# Altium schematic symbol library Memory_EEPROM.SchLib: 82 symbols
Pins are listed as number, name and electrical type; pins without a type are passive.

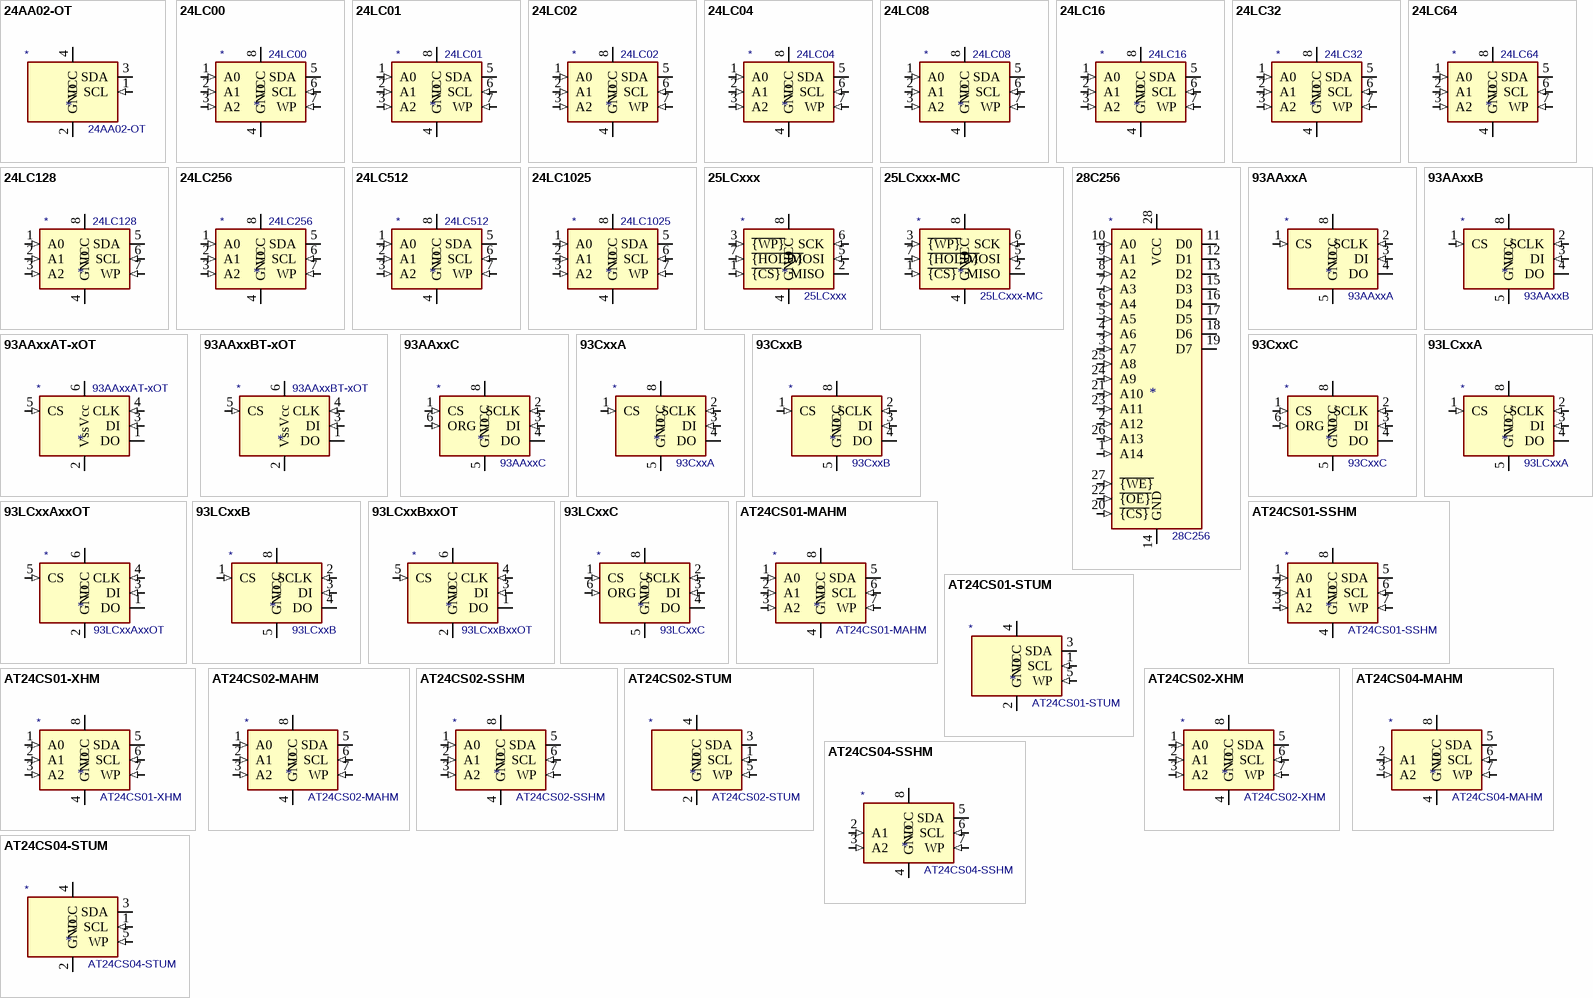
[diagram p0: symbols 24AA02-OT to AT24CS04-STUM]

## 24AA02-OT
designator *  value 24AA02-OT
ki_keywords: I2C Serial EEPROM; ki_description: I2C Serial EEPROM, 2Kb, SOT-23; ki_fp_filters: SOT?23*; Footprint: Package_TO_SOT_SMD:SOT-23-5; Supplier: http://ww1.microchip.com/downloads/en/DeviceDoc/21709J.pdf
footprint SOT-23-5
pins: 1 SCL (in), 2 GND (power), 3 SDA (io), 4 VCC (power), 5 NC (in) hidden

## 24LC00
designator *  value 24LC00
ki_keywords: I2C Serial EEPROM; ki_description: I2C Serial EEPROM, 128 Bits, DIP-8/SOIC-8/TSSOP-8/DFN-8; ki_fp_filters: DIP*W7.62mm* SOIC*3.9x4.9mm* TSSOP*4.4x3mm*P0.65mm* DFN*3x2mm*P0.5mm*; Supplier: http://ww1.microchip.com/downloads/en/DeviceDoc/21178G.pdf
pins: 1 A0 (in), 2 A1 (in), 3 A2 (in), 4 GND (power), 5 SDA (io), 6 SCL (in), 7 WP (in), 8 VCC (power)

## 24LC01
designator *  value 24LC01
ki_keywords: I2C Serial EEPROM; ki_description: I2C Serial EEPROM, 1Kb, DIP-8/SOIC-8/TSSOP-8/DFN-8; ki_fp_filters: DIP*W7.62mm* SOIC*3.9x4.9mm* TSSOP*4.4x3mm*P0.65mm* DFN*3x2mm*P0.5mm*; Supplier: http://ww1.microchip.com/downloads/en/DeviceDoc/21711J.pdf
pins: 1 A0 (in), 2 A1 (in), 3 A2 (in), 4 GND (power), 5 SDA (io), 6 SCL (in), 7 WP (in), 8 VCC (power)

## 24LC02
designator *  value 24LC02
ki_keywords: I2C Serial EEPROM; ki_description: I2C Serial EEPROM, 2Kb, DIP-8/SOIC-8/TSSOP-8/DFN-8; ki_fp_filters: DIP*W7.62mm* SOIC*3.9x4.9mm* TSSOP*4.4x3mm*P0.65mm* DFN*3x2mm*P0.5mm*; Supplier: http://ww1.microchip.com/downloads/en/DeviceDoc/21709c.pdf
pins: 1 A0 (in), 2 A1 (in), 3 A2 (in), 4 GND (power), 5 SDA (io), 6 SCL (in), 7 WP (in), 8 VCC (power)

## 24LC04
designator *  value 24LC04
ki_keywords: I2C Serial EEPROM; ki_description: I2C Serial EEPROM, 4Kb, DIP-8/SOIC-8/TSSOP-8/DFN-8; ki_fp_filters: DIP*W7.62mm* SOIC*3.9x4.9mm* TSSOP*4.4x3mm*P0.65mm* DFN*3x2mm*P0.5mm*; Supplier: http://ww1.microchip.com/downloads/en/DeviceDoc/21708K.pdf
pins: 1 A0 (in), 2 A1 (in), 3 A2 (in), 4 GND (power), 5 SDA (io), 6 SCL (in), 7 WP (in), 8 VCC (power)

## 24LC08
designator *  value 24LC08
ki_keywords: I2C Serial EEPROM; ki_description: I2C Serial EEPROM, 8Kb, DIP-8/SOIC-8/TSSOP-8/DFN-8; ki_fp_filters: DIP*W7.62mm* SOIC*3.9x4.9mm* TSSOP*4.4x3mm*P0.65mm* DFN*3x2mm*P0.5mm*; Supplier: http://ww1.microchip.com/downloads/en/DeviceDoc/21710J.pdf
pins: 1 A0 (in), 2 A1 (in), 3 A2 (in), 4 GND (power), 5 SDA (io), 6 SCL (in), 7 WP (in), 8 VCC (power)

## 24LC16
designator *  value 24LC16
ki_keywords: I2C Serial EEPROM; ki_description: I2C Serial EEPROM, 16Kb, DIP-8/SOIC-8/TSSOP-8/DFN-8; ki_fp_filters: DIP*W7.62mm* SOIC*3.9x4.9mm* TSSOP*4.4x3mm*P0.65mm* DFN*3x2mm*P0.5mm*; Supplier: http://ww1.microchip.com/downloads/en/DeviceDoc/21703d.pdf
pins: 1 A0 (in), 2 A1 (in), 3 A2 (in), 4 GND (power), 5 SDA (io), 6 SCL (in), 7 WP (in), 8 VCC (power)

## 24LC32
designator *  value 24LC32
ki_keywords: I2C Serial EEPROM; ki_description: I2C Serial EEPROM, 32Kb, DIP-8/SOIC-8/TSSOP-8/DFN-8; ki_fp_filters: DIP*W7.62mm* SOIC*3.9x4.9mm* TSSOP*4.4x3mm*P0.65mm* DFN*3x2mm*P0.5mm*; Supplier: http://ww1.microchip.com/downloads/en/DeviceDoc/21072G.pdf
pins: 1 A0 (in), 2 A1 (in), 3 A2 (in), 4 GND (power), 5 SDA (io), 6 SCL (in), 7 WP (in), 8 VCC (power)

## 24LC64
designator *  value 24LC64
ki_keywords: I2C Serial EEPROM; ki_description: I2C Serial EEPROM, 64Kb, DIP-8/SOIC-8/TSSOP-8/DFN-8; ki_fp_filters: DIP*W7.62mm* SOIC*3.9x4.9mm* TSSOP*4.4x3mm*P0.65mm* DFN*3x2mm*P0.5mm*; Supplier: http://ww1.microchip.com/downloads/en/DeviceDoc/21189f.pdf
pins: 1 A0 (in), 2 A1 (in), 3 A2 (in), 4 GND (power), 5 SDA (io), 6 SCL (in), 7 WP (in), 8 VCC (power)

## 24LC128
designator *  value 24LC128
ki_keywords: I2C Serial EEPROM; ki_description: I2C Serial EEPROM, 128Kb, DIP-8/SOIC-8/TSSOP-8/DFN-8; ki_fp_filters: DIP*W7.62mm* SOIC*3.9x4.9mm* TSSOP*4.4x3mm*P0.65mm* DFN*3x2mm*P0.5mm*; Supplier: http://ww1.microchip.com/downloads/en/DeviceDoc/21191s.pdf
pins: 1 A0 (in), 2 A1 (in), 3 A2 (in), 4 GND (power), 5 SDA (io), 6 SCL (in), 7 WP (in), 8 VCC (power)

## 24LC256
designator *  value 24LC256
ki_keywords: I2C Serial EEPROM; ki_description: I2C Serial EEPROM, 256Kb, DIP-8/SOIC-8/TSSOP-8/DFN-8; ki_fp_filters: DIP*W7.62mm* SOIC*3.9x4.9mm* TSSOP*4.4x3mm*P0.65mm* DFN*3x2mm*P0.5mm*; Supplier: http://ww1.microchip.com/downloads/en/devicedoc/21203m.pdf
pins: 1 A0 (in), 2 A1 (in), 3 A2 (in), 4 GND (power), 5 SDA (io), 6 SCL (in), 7 WP (in), 8 VCC (power)

## 24LC512
designator *  value 24LC512
ki_keywords: I2C Serial EEPROM; ki_description: I2C Serial EEPROM, 512Kb, DIP-8/SOIC-8/TSSOP-8/DFN-8; ki_fp_filters: DIP*W7.62mm* SOIC*3.9x4.9mm* TSSOP*4.4x3mm*P0.65mm* DFN*3x2mm*P0.5mm*; Supplier: http://ww1.microchip.com/downloads/en/DeviceDoc/21754M.pdf
pins: 1 A0 (in), 2 A1 (in), 3 A2 (in), 4 GND (power), 5 SDA (io), 6 SCL (in), 7 WP (in), 8 VCC (power)

## 24LC1025
designator *  value 24LC1025
ki_keywords: I2C Serial EEPROM; ki_description: I2C Serial EEPROM, 1024Kb, DIP-8/SOIC-8/TSSOP-8/DFN-8; ki_fp_filters: DIP*W7.62mm* SOIC*3.9x4.9mm* TSSOP*4.4x3mm*P0.65mm* DFN*3x2mm*P0.5mm*; Supplier: http://ww1.microchip.com/downloads/en/DeviceDoc/21941B.pdf
pins: 1 A0 (in), 2 A1 (in), 3 A2 (in), 4 GND (power), 5 SDA (io), 6 SCL (in), 7 WP (in), 8 VCC (power)

## 25LCxxx
designator *  value 25LCxxx
ki_keywords: EEPROM memory SPI serial; ki_description: SPI Serial EEPROM, DIP-8/SOIC-8/TSSOP-8; ki_fp_filters: DIP*W7.62mm* SOIC*3.9x4.9mm* TSSOP*4.4x3mm*P0.65mm*; Supplier: http://ww1.microchip.com/downloads/en/DeviceDoc/21832H.pdf
pins: 1 ~{{CS}} (in), 2 MISO (hiz), 3 ~{{WP}} (in), 4 GND (power), 5 MOSI (in), 6 SCK (in), 7 ~{{HOLD}} (in), 8 VCC (power)

## 25LCxxx-MC
designator *  value 25LCxxx-MC
ki_keywords: EEPROM memory SPI serial; ki_description: SPI Serial EEPROM, DFN8; ki_fp_filters: DFN*3x2mm*P0.5mm*; Footprint: Package_DFN_QFN:DFN-8-1EP_3x2mm_P0.5mm_EP1.75x1.45mm; Supplier: http://ww1.microchip.com/downloads/en/DeviceDoc/21832H.pdf
footprint DFN-8-1EP_3x2mm_P0.5mm_EP1.75x1.45mm
pins: 1 ~{{CS}} (in), 2 MISO (hiz), 3 ~{{WP}} (in), 4 GND (power), 5 MOSI (in), 6 SCK (in), 7 ~{{HOLD}} (in), 8 VCC (power), 9 GND hidden

## 28C256
designator *  value 28C256
ki_keywords: Parallel EEPROM 256Kb; ki_description: Paged Parallel EEPROM 256Kb (32K x 8), DIP-28/SOIC-28; ki_fp_filters: DIP*W15.24mm* SOIC*7.5x17.9mm*P1.27mm*; Supplier: http://ww1.microchip.com/downloads/en/DeviceDoc/doc0006.pdf
pins: 1 A14 (in), 2 A12 (in), 3 A7 (in), 4 A6 (in), 5 A5 (in), 6 A4 (in), 7 A3 (in), 8 A2 (in), 9 A1 (in), 10 A0 (in), 11 D0 (hiz), 12 D1 (hiz), 13 D2 (hiz), 14 GND (power), 15 D3 (hiz), 16 D4 (hiz), 17 D5 (hiz), 18 D6 (hiz), 19 D7 (hiz), 20 ~{{CS}} (in), 21 A10 (in), 22 ~{{OE}} (in), 23 A11 (in), 24 A9 (in), 25 A8 (in), 26 A13 (in), 27 ~{{WE}} (in), 28 VCC (power)

## 93AAxxA
designator *  value 93AAxxA
ki_keywords: EEPROM memory Microwire; ki_description: Serial EEPROM, 93 Series, 1.8V, DIP-8/SOIC-8; ki_fp_filters: DIP*W7.62mm* SOIC*3.9x4.9mm*; Supplier: http://ww1.microchip.com/downloads/en/DeviceDoc/20001749K.pdf
pins: 1 CS (in), 2 SCLK (in), 3 DI (in), 4 DO (hiz), 5 GND (power), 6 NC (in) hidden, 7 NC (in) hidden, 8 VCC (power)

## 93AAxxAT-xOT
designator *  value 93AAxxAT-xOT
ki_keywords: EEPROM memory Microwire; ki_description: Serial EEPROM, 93 Series, 8-bit word, 1.8V, SOT-23-6; ki_fp_filters: SOT?23*; Footprint: Package_TO_SOT_SMD:SOT-23-6; Supplier: http://ww1.microchip.com/downloads/en/DeviceDoc/20001749K.pdf
footprint SOT-23-6
pins: 1 DO (hiz), 2 Vss (power), 3 DI (in), 4 CLK (in), 5 CS (in), 6 Vcc (power)

## 93AAxxB
designator *  value 93AAxxB
ki_keywords: EEPROM memory Microwire; ki_description: Serial EEPROM, 93 Series, 1.8V, DIP-8/SOIC-8; ki_fp_filters: DIP*W7.62mm* SOIC*3.9x4.9mm*; Supplier: http://ww1.microchip.com/downloads/en/DeviceDoc/20001749K.pdf
pins: 1 CS (in), 2 SCLK (in), 3 DI (in), 4 DO (hiz), 5 GND (power), 6 NC (in) hidden, 7 NC (in) hidden, 8 VCC (power)

## 93AAxxBT-xOT
designator *  value 93AAxxBT-xOT
ki_keywords: EEPROM memory Microwire; ki_description: Serial EEPROM, 93 Series, 16-bit word, 1.8V, SOT-23; ki_fp_filters: SOT?23*; Footprint: Package_TO_SOT_SMD:SOT-23-6; Supplier: http://ww1.microchip.com/downloads/en/DeviceDoc/20001749K.pdf
footprint SOT-23-6
pins: 1 DO (hiz), 2 Vss (power), 3 DI (in), 4 CLK (in), 5 CS (in), 6 Vcc (power)

## 93AAxxC
designator *  value 93AAxxC
ki_keywords: EEPROM memory Microwire; ki_description: Serial EEPROM, 93 Series, with ORG Pin, 1.8V, DIP-8/SOIC-8; ki_fp_filters: DIP*W7.62mm* SOIC*3.9x4.9mm*; Supplier: http://ww1.microchip.com/downloads/en/DeviceDoc/20001749K.pdf
pins: 1 CS (in), 2 SCLK (in), 3 DI (in), 4 DO (hiz), 5 GND (power), 6 ORG (in), 7 NC (in) hidden, 8 VCC (power)

## 93CxxA
designator *  value 93CxxA
ki_keywords: EEPROM memory Microwire; ki_description: Serial EEPROM, 93 Series, 5.0V, DIP-8/SOIC-8; ki_fp_filters: DIP*W7.62mm* SOIC*3.9x4.9mm*; Supplier: http://ww1.microchip.com/downloads/en/DeviceDoc/20001749K.pdf
pins: 1 CS (in), 2 SCLK (in), 3 DI (in), 4 DO (hiz), 5 GND (power), 6 NC (in) hidden, 7 NC (in) hidden, 8 VCC (power)

## 93CxxB
designator *  value 93CxxB
ki_keywords: EEPROM memory Microwire; ki_description: Serial EEPROM, 93 Series, 5.0V, DIP-8/SOIC-8; ki_fp_filters: DIP*W7.62mm* SOIC*3.9x4.9mm*; Supplier: http://ww1.microchip.com/downloads/en/DeviceDoc/20001749K.pdf
pins: 1 CS (in), 2 SCLK (in), 3 DI (in), 4 DO (hiz), 5 GND (power), 6 NC (in) hidden, 7 NC (in) hidden, 8 VCC (power)

## 93CxxC
designator *  value 93CxxC
ki_keywords: EEPROM memory Microwire; ki_description: Serial EEPROM, 93 Series, with ORG Pin, 5.0V, DIP-8/SOIC-8; ki_fp_filters: DIP*W7.62mm* SOIC*3.9x4.9mm*; Supplier: http://ww1.microchip.com/downloads/en/DeviceDoc/20001749K.pdf
pins: 1 CS (in), 2 SCLK (in), 3 DI (in), 4 DO (hiz), 5 GND (power), 6 ORG (in), 7 NC (in) hidden, 8 VCC (power)

## 93LCxxA
designator *  value 93LCxxA
ki_keywords: EEPROM memory Microwire; ki_description: Serial EEPROM, 93 Series, 2.5V, DIP-8/SOIC-8; ki_fp_filters: DIP*W7.62mm* SOIC*3.9x4.9mm*; Supplier: http://ww1.microchip.com/downloads/en/DeviceDoc/20001749K.pdf
pins: 1 CS (in), 2 SCLK (in), 3 DI (in), 4 DO (hiz), 5 GND (power), 6 NC (in) hidden, 7 NC (in) hidden, 8 VCC (power)

## 93LCxxAxxOT
designator *  value 93LCxxAxxOT
ki_keywords: EEPROM memory Microwire; ki_description: Serial EEPROM, 93 Series, 2.5V, SOT-23-6; ki_fp_filters: SOT?23*; Footprint: Package_TO_SOT_SMD:SOT-23-6; Supplier: http://ww1.microchip.com/downloads/en/DeviceDoc/20001749K.pdf
footprint SOT-23-6
pins: 1 DO (hiz), 2 GND (power), 3 DI (in), 4 CLK (in), 5 CS (in), 6 VCC (power)

## 93LCxxB
designator *  value 93LCxxB
ki_keywords: EEPROM memory Microwire; ki_description: Serial EEPROM, 93 Series, 2.5V, DIP-8/SOIC-8; ki_fp_filters: DIP*W7.62mm* SOIC*3.9x4.9mm*; Supplier: http://ww1.microchip.com/downloads/en/DeviceDoc/20001749K.pdf
pins: 1 CS (in), 2 SCLK (in), 3 DI (in), 4 DO (hiz), 5 GND (power), 6 NC (in) hidden, 7 NC (in) hidden, 8 VCC (power)

## 93LCxxBxxOT
designator *  value 93LCxxBxxOT
ki_keywords: 1K Microwire Serial EEPROM; ki_description: Serial EEPROM, 93 Series, 2.5V, SOT-23-6; ki_fp_filters: SOT?23*; Footprint: Package_TO_SOT_SMD:SOT-23-6; Supplier: http://ww1.microchip.com/downloads/en/DeviceDoc/20001749K.pdf
footprint SOT-23-6
pins: 1 DO (hiz), 2 GND (power), 3 DI (in), 4 CLK (in), 5 CS (in), 6 VCC (power)

## 93LCxxC
designator *  value 93LCxxC
ki_keywords: EEPROM memory Microwire; ki_description: Serial EEPROM, 93 Series, with ORG Pin, 2.5V, DIP-8/SOIC-8; ki_fp_filters: DIP*W7.62mm* SOIC*3.9x4.9mm*; Supplier: http://ww1.microchip.com/downloads/en/DeviceDoc/20001749K.pdf
pins: 1 CS (in), 2 SCLK (in), 3 DI (in), 4 DO (hiz), 5 GND (power), 6 ORG (in), 7 NC (in) hidden, 8 VCC (power)

## AT24CS01-MAHM
designator *  value AT24CS01-MAHM
ki_keywords: I2C Serial EEPROM Nonvolatile Memory; ki_description: I2C Serial EEPROM, 1Kb (128x8) with Unique Serial Number, UDFN8; ki_fp_filters: DFN*3x2mm*P0.5mm*; Footprint: Package_DFN_QFN:DFN-8-1EP_3x2mm_P0.5mm_EP1.3x1.5mm; Supplier: http://ww1.microchip.com/downloads/en/DeviceDoc/Atmel-8815-SEEPROM-AT24CS01-02-Datasheet.pdf
footprint DFN-8-1EP_3x2mm_P0.5mm_EP1.3x1.5mm
pins: 1 A0 (in), 2 A1 (in), 3 A2 (in), 4 GND (power), 5 SDA (io), 6 SCL (in), 7 WP (in), 8 VCC (power)

## AT24CS01-SSHM
designator *  value AT24CS01-SSHM
ki_keywords: I2C Serial EEPROM Nonvolatile Memory; ki_description: I2C Serial EEPROM, 1Kb (128x8) with Unique Serial Number, SO8; ki_fp_filters: SOIC*3.9x4.9mm*P1.27mm*; Footprint: Package_SO:SOIC-8_3.9x4.9mm_P1.27mm; Supplier: http://ww1.microchip.com/downloads/en/DeviceDoc/Atmel-8815-SEEPROM-AT24CS01-02-Datasheet.pdf
footprint SOIC-8_3.9x4.9mm_P1.27mm
pins: 1 A0 (in), 2 A1 (in), 3 A2 (in), 4 GND (power), 5 SDA (io), 6 SCL (in), 7 WP (in), 8 VCC (power)

## AT24CS01-STUM
designator *  value AT24CS01-STUM
ki_keywords: I2C Serial EEPROM Nonvolatile Memory; ki_description: I2C Serial EEPROM, 1Kb (128x8) with Unique Serial Number, SOT-23-5; ki_fp_filters: SOT?23*; Footprint: Package_TO_SOT_SMD:SOT-23-5; Supplier: http://ww1.microchip.com/downloads/en/DeviceDoc/Atmel-8815-SEEPROM-AT24CS01-02-Datasheet.pdf
footprint SOT-23-5
pins: 1 SCL (in), 2 GND (power), 3 SDA (io), 4 VCC (power), 5 WP (in)

## AT24CS01-XHM
designator *  value AT24CS01-XHM
ki_keywords: I2C Serial EEPROM Nonvolatile Memory; ki_description: I2C Serial EEPROM, 1Kb (128x8) with Unique Serial Number, TSSOP8; ki_fp_filters: TSSOP*4.4x3mm*P0.65mm*; Footprint: Package_SO:TSSOP-8_4.4x3mm_P0.65mm; Supplier: http://ww1.microchip.com/downloads/en/DeviceDoc/Atmel-8815-SEEPROM-AT24CS01-02-Datasheet.pdf
footprint TSSOP-8_4.4x3mm_P0.65mm
pins: 1 A0 (in), 2 A1 (in), 3 A2 (in), 4 GND (power), 5 SDA (io), 6 SCL (in), 7 WP (in), 8 VCC (power)

## AT24CS02-MAHM
designator *  value AT24CS02-MAHM
ki_keywords: I2C Serial EEPROM Nonvolatile Memory; ki_description: I2C Serial EEPROM, 2Kb (256x8) with Unique Serial Number, UDFN8; ki_fp_filters: DFN*3x2mm*P0.5mm*; Footprint: Package_DFN_QFN:DFN-8-1EP_3x2mm_P0.5mm_EP1.3x1.5mm; Supplier: http://ww1.microchip.com/downloads/en/DeviceDoc/Atmel-8815-SEEPROM-AT24CS01-02-Datasheet.pdf
footprint DFN-8-1EP_3x2mm_P0.5mm_EP1.3x1.5mm
pins: 1 A0 (in), 2 A1 (in), 3 A2 (in), 4 GND (power), 5 SDA (io), 6 SCL (in), 7 WP (in), 8 VCC (power)

## AT24CS02-SSHM
designator *  value AT24CS02-SSHM
ki_keywords: I2C Serial EEPROM Nonvolatile Memory; ki_description: I2C Serial EEPROM, 2Kb (256x8) with Unique Serial Number, SO8; ki_fp_filters: SOIC*3.9x4.9mm*P1.27mm*; Footprint: Package_SO:SOIC-8_3.9x4.9mm_P1.27mm; Supplier: http://ww1.microchip.com/downloads/en/DeviceDoc/Atmel-8815-SEEPROM-AT24CS01-02-Datasheet.pdf
footprint SOIC-8_3.9x4.9mm_P1.27mm
pins: 1 A0 (in), 2 A1 (in), 3 A2 (in), 4 GND (power), 5 SDA (io), 6 SCL (in), 7 WP (in), 8 VCC (power)

## AT24CS02-STUM
designator *  value AT24CS02-STUM
ki_keywords: I2C Serial EEPROM Nonvolatile Memory; ki_description: I2C Serial EEPROM, 2Kb (256x8) with Unique Serial Number, SOT-23-5; ki_fp_filters: SOT?23*; Footprint: Package_TO_SOT_SMD:SOT-23-5; Supplier: http://ww1.microchip.com/downloads/en/DeviceDoc/Atmel-8815-SEEPROM-AT24CS01-02-Datasheet.pdf
footprint SOT-23-5
pins: 1 SCL (in), 2 GND (power), 3 SDA (io), 4 VCC (power), 5 WP (in)

## AT24CS02-XHM
designator *  value AT24CS02-XHM
ki_keywords: I2C Serial EEPROM Nonvolatile Memory; ki_description: I2C Serial EEPROM, 2Kb (256x8) with Unique Serial Number, TSSOP8; ki_fp_filters: TSSOP*4.4x3mm*P0.65mm*; Footprint: Package_SO:TSSOP-8_4.4x3mm_P0.65mm; Supplier: http://ww1.microchip.com/downloads/en/DeviceDoc/Atmel-8815-SEEPROM-AT24CS01-02-Datasheet.pdf
footprint TSSOP-8_4.4x3mm_P0.65mm
pins: 1 A0 (in), 2 A1 (in), 3 A2 (in), 4 GND (power), 5 SDA (io), 6 SCL (in), 7 WP (in), 8 VCC (power)

## AT24CS04-MAHM
designator *  value AT24CS04-MAHM
ki_keywords: I2C Serial EEPROM Nonvolatile Memory; ki_description: I2C Serial EEPROM, 4Kb (512x8) with Unique Serial Number, UDFN8; ki_fp_filters: DFN*3x2mm*P0.5mm*; Footprint: Package_DFN_QFN:DFN-8-1EP_3x2mm_P0.5mm_EP1.3x1.5mm; Supplier: http://ww1.microchip.com/downloads/en/DeviceDoc/Atmel-8766-SEEPROM-AT24CS04-08-Datasheet.pdf
footprint DFN-8-1EP_3x2mm_P0.5mm_EP1.3x1.5mm
pins: 1 NC (in) hidden, 2 A1 (in), 3 A2 (in), 4 GND (power), 5 SDA (io), 6 SCL (in), 7 WP (in), 8 VCC (power), 9 NC (in) hidden

## AT24CS04-SSHM
designator *  value AT24CS04-SSHM
ki_keywords: I2C Serial EEPROM Nonvolatile Memory; ki_description: I2C Serial EEPROM, 4Kb (512x8) with Unique Serial Number, SO8; ki_fp_filters: SOIC*3.9x4.9mm*P1.27mm*; Footprint: Package_SO:SOIC-8_3.9x4.9mm_P1.27mm; Supplier: http://ww1.microchip.com/downloads/en/DeviceDoc/Atmel-8766-SEEPROM-AT24CS04-08-Datasheet.pdf
footprint SOIC-8_3.9x4.9mm_P1.27mm
pins: 1 NC (in) hidden, 2 A1 (in), 3 A2 (in), 4 GND (power), 5 SDA (io), 6 SCL (in), 7 WP (in), 8 VCC (power)

## AT24CS04-STUM
designator *  value AT24CS04-STUM
ki_keywords: I2C Serial EEPROM Nonvolatile Memory; ki_description: I2C Serial EEPROM, 4Kb (512x8) with Unique Serial Number, SOT-23-5; ki_fp_filters: SOT?23*; Footprint: Package_TO_SOT_SMD:SOT-23-5; Supplier: http://ww1.microchip.com/downloads/en/DeviceDoc/Atmel-8766-SEEPROM-AT24CS04-08-Datasheet.pdf
footprint SOT-23-5
pins: 1 SCL (in), 2 GND (power), 3 SDA (io), 4 VCC (power), 5 WP (in)

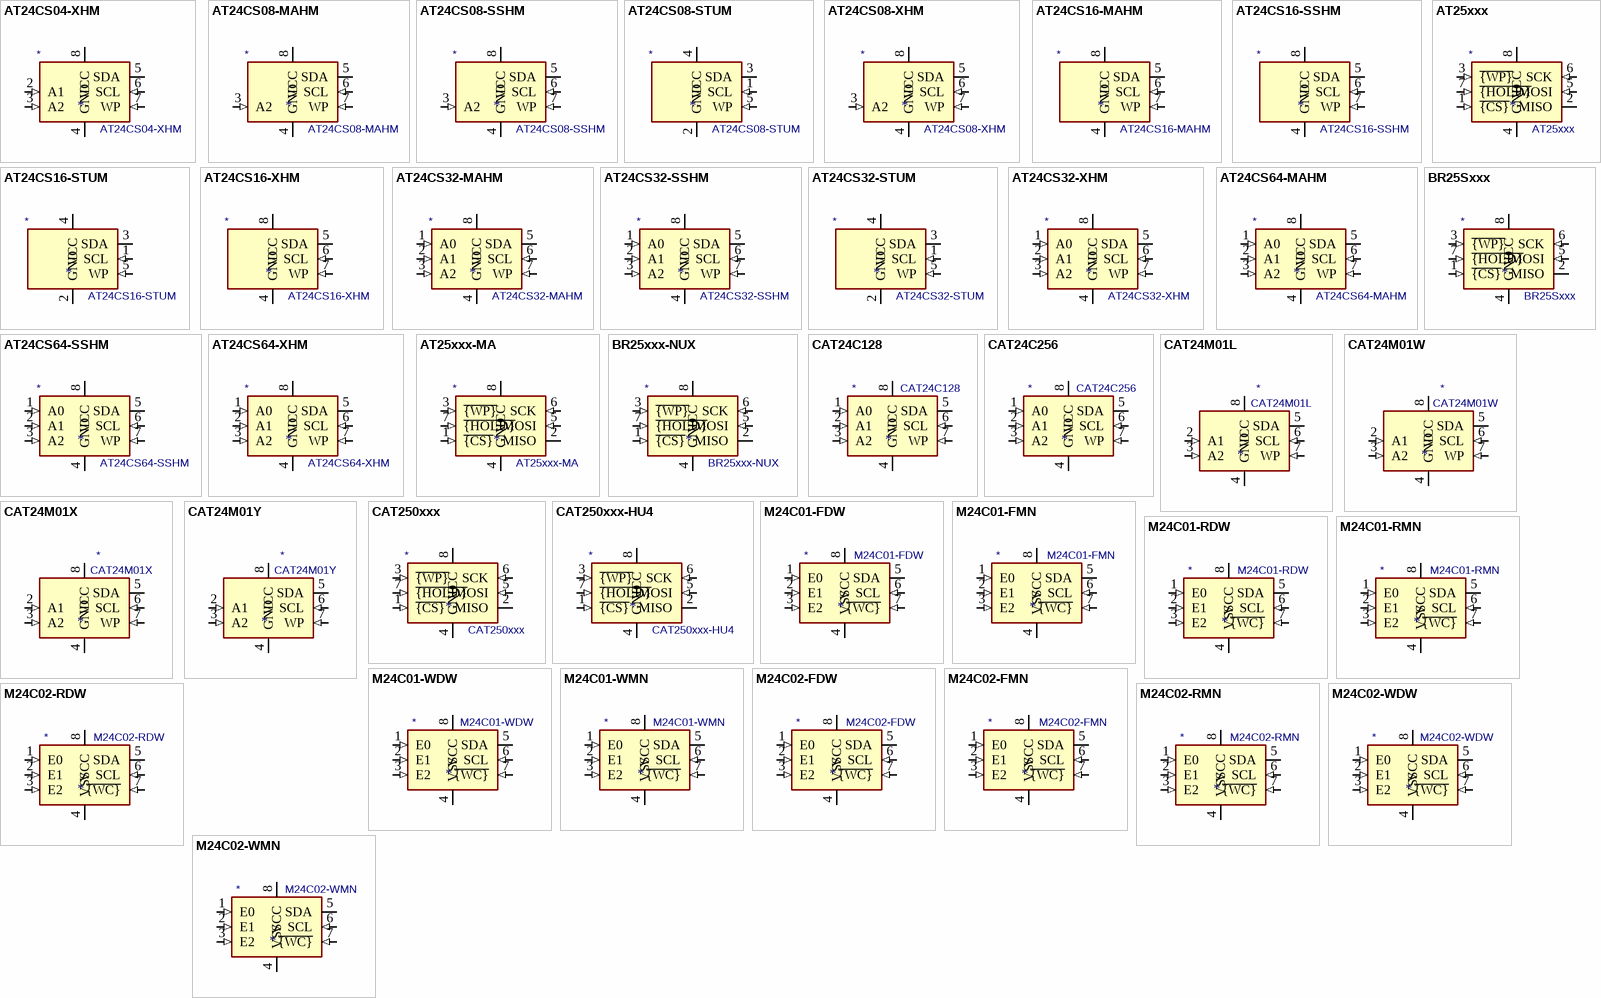
[diagram p1: symbols AT24CS04-XHM to M24C02-WMN]

## AT24CS04-XHM
designator *  value AT24CS04-XHM
ki_keywords: I2C Serial EEPROM Nonvolatile Memory; ki_description: I2C Serial EEPROM, 4Kb (512x8) with Unique Serial Number, TSSOP8; ki_fp_filters: TSSOP*4.4x3mm*P0.65mm*; Footprint: Package_SO:TSSOP-8_4.4x3mm_P0.65mm; Supplier: http://ww1.microchip.com/downloads/en/DeviceDoc/Atmel-8766-SEEPROM-AT24CS04-08-Datasheet.pdf
footprint TSSOP-8_4.4x3mm_P0.65mm
pins: 1 NC (in) hidden, 2 A1 (in), 3 A2 (in), 4 GND (power), 5 SDA (io), 6 SCL (in), 7 WP (in), 8 VCC (power)

## AT24CS08-MAHM
designator *  value AT24CS08-MAHM
ki_keywords: I2C Serial EEPROM Nonvolatile Memory; ki_description: I2C Serial EEPROM, 8Kb (1024x8) with Unique Serial Number, UDFN8; ki_fp_filters: DFN*3x2mm*P0.5mm*; Footprint: Package_DFN_QFN:DFN-8-1EP_3x2mm_P0.5mm_EP1.3x1.5mm; Supplier: http://ww1.microchip.com/downloads/en/DeviceDoc/Atmel-8766-SEEPROM-AT24CS04-08-Datasheet.pdf
footprint DFN-8-1EP_3x2mm_P0.5mm_EP1.3x1.5mm
pins: 1 NC (in) hidden, 2 NC (in) hidden, 3 A2 (in), 4 GND (power), 5 SDA (io), 6 SCL (in), 7 WP (in), 8 VCC (power), 9 NC (in) hidden

## AT24CS08-SSHM
designator *  value AT24CS08-SSHM
ki_keywords: I2C Serial EEPROM Nonvolatile Memory; ki_description: I2C Serial EEPROM, 8Kb (1024x8) with Unique Serial Number, SO8; ki_fp_filters: SOIC*3.9x4.9mm*P1.27mm*; Footprint: Package_SO:SOIC-8_3.9x4.9mm_P1.27mm; Supplier: http://ww1.microchip.com/downloads/en/DeviceDoc/Atmel-8766-SEEPROM-AT24CS04-08-Datasheet.pdf
footprint SOIC-8_3.9x4.9mm_P1.27mm
pins: 1 NC (in) hidden, 2 NC (in) hidden, 3 A2 (in), 4 GND (power), 5 SDA (io), 6 SCL (in), 7 WP (in), 8 VCC (power)

## AT24CS08-STUM
designator *  value AT24CS08-STUM
ki_keywords: I2C Serial EEPROM Nonvolatile Memory; ki_description: I2C Serial EEPROM, 8Kb (1024x8) with Unique Serial Number, SOT-23-5; ki_fp_filters: SOT?23*; Footprint: Package_TO_SOT_SMD:SOT-23-5; Supplier: http://ww1.microchip.com/downloads/en/DeviceDoc/Atmel-8766-SEEPROM-AT24CS04-08-Datasheet.pdf
footprint SOT-23-5
pins: 1 SCL (in), 2 GND (power), 3 SDA (io), 4 VCC (power), 5 WP (in)

## AT24CS08-XHM
designator *  value AT24CS08-XHM
ki_keywords: I2C Serial EEPROM Nonvolatile Memory; ki_description: I2C Serial EEPROM, 8Kb (1024x8) with Unique Serial Number, TSSOP8; ki_fp_filters: TSSOP*4.4x3mm*P0.65mm*; Footprint: Package_SO:TSSOP-8_4.4x3mm_P0.65mm; Supplier: http://ww1.microchip.com/downloads/en/DeviceDoc/Atmel-8766-SEEPROM-AT24CS04-08-Datasheet.pdf
footprint TSSOP-8_4.4x3mm_P0.65mm
pins: 1 NC (in) hidden, 2 NC (in) hidden, 3 A2 (in), 4 GND (power), 5 SDA (io), 6 SCL (in), 7 WP (in), 8 VCC (power)

## AT24CS16-MAHM
designator *  value AT24CS16-MAHM
ki_keywords: I2C Serial EEPROM Nonvolatile Memory; ki_description: I2C Serial EEPROM, 16Kb (2048x8) with Unique Serial Number, UDFN8; ki_fp_filters: DFN*3x2mm*P0.5mm*; Footprint: Package_DFN_QFN:DFN-8-1EP_3x2mm_P0.5mm_EP1.3x1.5mm; Supplier: http://ww1.microchip.com/downloads/en/DeviceDoc/Atmel-8859-SEEPROM-AT24CS16-Datasheet.pdf
footprint DFN-8-1EP_3x2mm_P0.5mm_EP1.3x1.5mm
pins: 1 NC (in) hidden, 2 NC (in) hidden, 3 NC (in) hidden, 4 GND (power), 5 SDA (io), 6 SCL (in), 7 WP (in), 8 VCC (power), 9 NC (in) hidden

## AT24CS16-SSHM
designator *  value AT24CS16-SSHM
ki_keywords: I2C Serial EEPROM Nonvolatile Memory; ki_description: I2C Serial EEPROM, 16Kb (2048x8) with Unique Serial Number, SO8; ki_fp_filters: SOIC*3.9x4.9mm*P1.27mm*; Footprint: Package_SO:SOIC-8_3.9x4.9mm_P1.27mm; Supplier: http://ww1.microchip.com/downloads/en/DeviceDoc/Atmel-8859-SEEPROM-AT24CS16-Datasheet.pdf
footprint SOIC-8_3.9x4.9mm_P1.27mm
pins: 1 NC (in) hidden, 2 NC (in) hidden, 3 NC (in) hidden, 4 GND (power), 5 SDA (io), 6 SCL (in), 7 WP (in), 8 VCC (power)

## AT24CS16-STUM
designator *  value AT24CS16-STUM
ki_keywords: I2C Serial EEPROM Nonvolatile Memory; ki_description: I2C Serial EEPROM, 16Kb (2048x8) with Unique Serial Number, SOT-23-5; ki_fp_filters: SOT?23*; Footprint: Package_TO_SOT_SMD:SOT-23-5; Supplier: http://ww1.microchip.com/downloads/en/DeviceDoc/Atmel-8859-SEEPROM-AT24CS16-Datasheet.pdf
footprint SOT-23-5
pins: 1 SCL (in), 2 GND (power), 3 SDA (io), 4 VCC (power), 5 WP (in)

## AT24CS16-XHM
designator *  value AT24CS16-XHM
ki_keywords: I2C Serial EEPROM Nonvolatile Memory; ki_description: I2C Serial EEPROM, 16Kb (2048x8) with Unique Serial Number, TSSOP8; ki_fp_filters: TSSOP*4.4x3mm*P0.65mm*; Footprint: Package_SO:TSSOP-8_4.4x3mm_P0.65mm; Supplier: http://ww1.microchip.com/downloads/en/DeviceDoc/Atmel-8859-SEEPROM-AT24CS16-Datasheet.pdf
footprint TSSOP-8_4.4x3mm_P0.65mm
pins: 1 NC (in) hidden, 2 NC (in) hidden, 3 NC (in) hidden, 4 GND (power), 5 SDA (io), 6 SCL (in), 7 WP (in), 8 VCC (power)

## AT24CS32-MAHM
designator *  value AT24CS32-MAHM
ki_keywords: I2C Serial EEPROM Nonvolatile Memory; ki_description: I2C Serial EEPROM, 32Kb (4096x8) with Unique Serial Number, UDFN8; ki_fp_filters: DFN*3x2mm*P0.5mm*; Footprint: Package_DFN_QFN:DFN-8-1EP_3x2mm_P0.5mm_EP1.3x1.5mm; Supplier: http://ww1.microchip.com/downloads/en/DeviceDoc/Atmel-8869-SEEPROM-AT24CS32-Datasheet.pdf
footprint DFN-8-1EP_3x2mm_P0.5mm_EP1.3x1.5mm
pins: 1 A0 (in), 2 A1 (in), 3 A2 (in), 4 GND (power), 5 SDA (io), 6 SCL (in), 7 WP (in), 8 VCC (power)

## AT24CS32-SSHM
designator *  value AT24CS32-SSHM
ki_keywords: I2C Serial EEPROM Nonvolatile Memory; ki_description: I2C Serial EEPROM, 32Kb (4096x8) with Unique Serial Number, SO8; ki_fp_filters: SOIC*3.9x4.9mm*P1.27mm*; Footprint: Package_SO:SOIC-8_3.9x4.9mm_P1.27mm; Supplier: http://ww1.microchip.com/downloads/en/DeviceDoc/Atmel-8869-SEEPROM-AT24CS32-Datasheet.pdf
footprint SOIC-8_3.9x4.9mm_P1.27mm
pins: 1 A0 (in), 2 A1 (in), 3 A2 (in), 4 GND (power), 5 SDA (io), 6 SCL (in), 7 WP (in), 8 VCC (power)

## AT24CS32-STUM
designator *  value AT24CS32-STUM
ki_keywords: I2C Serial EEPROM Nonvolatile Memory; ki_description: I2C Serial EEPROM, 32Kb (4096x8) with Unique Serial Number, SOT-23-5; ki_fp_filters: SOT?23*; Footprint: Package_TO_SOT_SMD:SOT-23-5; Supplier: http://ww1.microchip.com/downloads/en/DeviceDoc/Atmel-8869-SEEPROM-AT24CS32-Datasheet.pdf
footprint SOT-23-5
pins: 1 SCL (in), 2 GND (power), 3 SDA (io), 4 VCC (power), 5 WP (in)

## AT24CS32-XHM
designator *  value AT24CS32-XHM
ki_keywords: I2C Serial EEPROM Nonvolatile Memory; ki_description: I2C Serial EEPROM, 32Kb (4096x8) with Unique Serial Number, TSSOP8; ki_fp_filters: TSSOP*4.4x3mm*P0.65mm*; Footprint: Package_SO:TSSOP-8_4.4x3mm_P0.65mm; Supplier: http://ww1.microchip.com/downloads/en/DeviceDoc/Atmel-8869-SEEPROM-AT24CS32-Datasheet.pdf
footprint TSSOP-8_4.4x3mm_P0.65mm
pins: 1 A0 (in), 2 A1 (in), 3 A2 (in), 4 GND (power), 5 SDA (io), 6 SCL (in), 7 WP (in), 8 VCC (power)

## AT24CS64-MAHM
designator *  value AT24CS64-MAHM
ki_keywords: I2C Serial EEPROM Nonvolatile Memory; ki_description: I2C Serial EEPROM, 64Kb (8192x8) with Unique Serial Number, UDFN8; ki_fp_filters: DFN*3x2mm*P0.5mm*; Footprint: Package_DFN_QFN:DFN-8-1EP_3x2mm_P0.5mm_EP1.3x1.5mm; Supplier: http://ww1.microchip.com/downloads/en/DeviceDoc/Atmel-8870-SEEPROM-AT24CS64-Datasheet.pdf
footprint DFN-8-1EP_3x2mm_P0.5mm_EP1.3x1.5mm
pins: 1 A0 (in), 2 A1 (in), 3 A2 (in), 4 GND (power), 5 SDA (io), 6 SCL (in), 7 WP (in), 8 VCC (power)

## AT24CS64-SSHM
designator *  value AT24CS64-SSHM
ki_keywords: I2C Serial EEPROM Nonvolatile Memory; ki_description: I2C Serial EEPROM, 64Kb (8192x8) with Unique Serial Number, SO8; ki_fp_filters: SOIC*3.9x4.9mm*P1.27mm*; Footprint: Package_SO:SOIC-8_3.9x4.9mm_P1.27mm; Supplier: http://ww1.microchip.com/downloads/en/DeviceDoc/Atmel-8870-SEEPROM-AT24CS64-Datasheet.pdf
footprint SOIC-8_3.9x4.9mm_P1.27mm
pins: 1 A0 (in), 2 A1 (in), 3 A2 (in), 4 GND (power), 5 SDA (io), 6 SCL (in), 7 WP (in), 8 VCC (power)

## AT24CS64-XHM
designator *  value AT24CS64-XHM
ki_keywords: I2C Serial EEPROM Nonvolatile Memory; ki_description: I2C Serial EEPROM, 64Kb (8192x8) with Unique Serial Number, TSSOP8; ki_fp_filters: TSSOP*4.4x3mm*P0.65mm*; Footprint: Package_SO:TSSOP-8_4.4x3mm_P0.65mm; Supplier: http://ww1.microchip.com/downloads/en/DeviceDoc/Atmel-8870-SEEPROM-AT24CS64-Datasheet.pdf
footprint TSSOP-8_4.4x3mm_P0.65mm
pins: 1 A0 (in), 2 A1 (in), 3 A2 (in), 4 GND (power), 5 SDA (io), 6 SCL (in), 7 WP (in), 8 VCC (power)

## AT25xxx
designator *  value AT25xxx
ki_keywords: EEPROM memory SPI serial; ki_description: Microchip SPI Serial EEPROM, DIP-8/SOIC-8/TSSOP-8; ki_fp_filters: DIP*W7.62mm* SOIC*3.9x4.9mm* TSSOP*4.4x3mm*P0.65mm*; Supplier: http://ww1.microchip.com/downloads/en/DeviceDoc/Atmel-8707-SEEPROM-AT25010B-020B-040B-Datasheet.pdf
pins: 1 ~{{CS}} (in), 2 MISO (hiz), 3 ~{{WP}} (in), 4 GND (power), 5 MOSI (in), 6 SCK (in), 7 ~{{HOLD}} (in), 8 VCC (power)

## AT25xxx-MA
designator *  value AT25xxx-MA
ki_keywords: EEPROM memory SPI serial; ki_description: Microchip SPI Serial EEPROM, DFN8; ki_fp_filters: DFN*3x2mm*P0.5mm*; Footprint: Package_DFN_QFN:DFN-8-1EP_3x2mm_P0.5mm_EP1.75x1.45mm; Supplier: http://ww1.microchip.com/downloads/en/DeviceDoc/Atmel-8707-SEEPROM-AT25010B-020B-040B-Datasheet.pdf
footprint DFN-8-1EP_3x2mm_P0.5mm_EP1.75x1.45mm
pins: 1 ~{{CS}} (in), 2 MISO (hiz), 3 ~{{WP}} (in), 4 GND (power), 5 MOSI (in), 6 SCK (in), 7 ~{{HOLD}} (in), 8 VCC (power), 9 GND hidden

## BR25Sxxx
designator *  value BR25Sxxx
ki_keywords: EEPROM memory SPI serial; ki_description: ROHM Semiconductor SPI Serial EEPROM, DIP-8/SOIC-8/TSSOP-8; ki_fp_filters: DIP*W7.62mm* SOIC*3.9x4.9mm* TSSOP*4.4x3mm*P0.65mm*; Supplier: http://www.rohm.com/web/global/products/-/product/BR25G128F-3
pins: 1 ~{{CS}} (in), 2 MISO (hiz), 3 ~{{WP}} (in), 4 GND (power), 5 MOSI (in), 6 SCK (in), 7 ~{{HOLD}} (in), 8 VCC (power)

## BR25xxx-NUX
designator *  value BR25xxx-NUX
ki_keywords: EEPROM memory SPI serial; ki_description: ROHM Semiconductor SPI Serial EEPROM, DFN8; ki_fp_filters: DFN*3x2mm*P0.5mm*; Footprint: Package_DFN_QFN:DFN-8-1EP_3x2mm_P0.5mm_EP1.75x1.45mm; Supplier: http://www.rohm.com/web/global/products/-/product/BR25G128F-3
footprint DFN-8-1EP_3x2mm_P0.5mm_EP1.75x1.45mm
pins: 1 ~{{CS}} (in), 2 MISO (hiz), 3 ~{{WP}} (in), 4 GND (power), 5 MOSI (in), 6 SCK (in), 7 ~{{HOLD}} (in), 8 VCC (power), 9 GND hidden

## CAT24C128
designator *  value CAT24C128
ki_keywords: I2C EEPROM Serial 128kb; ki_description: 128 kb CMOS Serial EEPROM, SOIC-8/TSSOP-8/DFN-8; ki_fp_filters: DIP*W7.62mm* SOIC*3.9x4.9mm* TSSOP*4.4x3mm*P0.65mm* DFN*3x2mm*P0.5mm*; Supplier: https://www.onsemi.com/pub/Collateral/CAT24C128-D.PDF
pins: 1 A0 (in), 2 A1 (in), 3 A2 (in), 4 GND (power), 5 SDA (io), 6 SCL (in), 7 WP (in), 8 VCC (power)

## CAT24C256
designator *  value CAT24C256
ki_keywords: I2C EEPROM Serial 256kb; ki_description: 256 kb CMOS Serial EEPROM, DIP-8/SOIC-8/TSSOP-8/DFN-8; ki_fp_filters: DIP*W7.62mm* SOIC*3.9x4.9mm* TSSOP*4.4x3mm*P0.65mm* DFN*3x2mm*P0.5mm*; Supplier: https://www.onsemi.cn/PowerSolutions/document/CAT24C256-D.PDF
pins: 1 A0 (in), 2 A1 (in), 3 A2 (in), 4 GND (power), 5 SDA (io), 6 SCL (in), 7 WP (in), 8 VCC (power)

## CAT24M01L
designator *  value CAT24M01L
ki_keywords: EEPROM 1Mb I2C; ki_description: 1 Mb I2C CMOS Serial EEPROM, DIP-8; ki_fp_filters: DIP*W7.62mm*; Footprint: Package_DIP:DIP-8_W7.62mm; Supplier: https://www.onsemi.com/pub/Collateral/CAT24M01-D.PDF
footprint DIP-8_W7.62mm
pins: 1 NC (in) hidden, 2 A1 (in), 3 A2 (in), 4 GND (power), 5 SDA (io), 6 SCL (in), 7 WP (in), 8 VCC (power)

## CAT24M01W
designator *  value CAT24M01W
ki_keywords: EEPROM 1Mb I2C; ki_description: 1 Mb I2C CMOS Serial EEPROM, SOIC-8; ki_fp_filters: SOIC*3.9x4.9mm*P1.27mm*; Footprint: Package_SO:SOIC-8_3.9x4.9mm_P1.27mm; Supplier: https://www.onsemi.com/pub/Collateral/CAT24M01-D.PDF
footprint SOIC-8_3.9x4.9mm_P1.27mm
pins: 1 NC (in) hidden, 2 A1 (in), 3 A2 (in), 4 GND (power), 5 SDA (io), 6 SCL (in), 7 WP (in), 8 VCC (power)

## CAT24M01X
designator *  value CAT24M01X
ki_keywords: EEPROM 1Mb I2C; ki_description: 1 Mb I2C CMOS Serial EEPROM, SOIC-8W; ki_fp_filters: SOIC*5.3x5.3mm*P1.27mm*; Footprint: Package_SO:SOIC-8W_5.3x5.3mm_P1.27mm; Supplier: https://www.onsemi.com/pub/Collateral/CAT24M01-D.PDF
footprint SOIC-8W_5.3x5.3mm_P1.27mm
pins: 1 NC (in) hidden, 2 A1 (in), 3 A2 (in), 4 GND (power), 5 SDA (io), 6 SCL (in), 7 WP (in), 8 VCC (power)

## CAT24M01Y
designator *  value CAT24M01Y
ki_keywords: EEPROM 1Mb I2C; ki_description: 1 Mb I2C CMOS Serial EEPROM, TSSOP-8; ki_fp_filters: TSSOP*4.4x3mm*P0.65mm*; Footprint: Package_SO:TSSOP-8_4.4x3mm_P0.65mm; Supplier: https://www.onsemi.com/pub/Collateral/CAT24M01-D.PDF
footprint TSSOP-8_4.4x3mm_P0.65mm
pins: 1 NC (in) hidden, 2 A1 (in), 3 A2 (in), 4 GND (power), 5 SDA (io), 6 SCL (in), 7 WP (in), 8 VCC (power)

## CAT250xxx
designator *  value CAT250xxx
ki_keywords: EEPROM memory SPI serial; ki_description: ON Semiconductor SPI Serial EEPROM, DIP-8/SOIC-8/TSSOP-8; ki_fp_filters: DIP*W7.62mm* SOIC*3.9x4.9mm* TSSOP*4.4x3mm*P0.65mm*; Supplier: http://www.onsemi.com/PowerSolutions/product.do?id=CAT25040
pins: 1 ~{{CS}} (in), 2 MISO (hiz), 3 ~{{WP}} (in), 4 GND (power), 5 MOSI (in), 6 SCK (in), 7 ~{{HOLD}} (in), 8 VCC (power)

## CAT250xxx-HU4
designator *  value CAT250xxx-HU4
ki_keywords: EEPROM memory SPI serial; ki_description: ON Semiconductor SPI Serial EEPROM, DFN8; ki_fp_filters: DFN*3x2mm*P0.5mm*; Footprint: Package_DFN_QFN:DFN-8-1EP_3x2mm_P0.5mm_EP1.75x1.45mm; Supplier: http://www.onsemi.com/PowerSolutions/product.do?id=CAT25040
footprint DFN-8-1EP_3x2mm_P0.5mm_EP1.75x1.45mm
pins: 1 ~{{CS}} (in), 2 MISO (hiz), 3 ~{{WP}} (in), 4 GND (power), 5 MOSI (in), 6 SCK (in), 7 ~{{HOLD}} (in), 8 VCC (power), 9 GND hidden

## M24C01-FDW
designator *  value M24C01-FDW
ki_keywords: Nonvolatile Non-Volatile Memory ROM ST; ki_description: 1Kb (128x8) I2C Serial EEPROM, 1.6-5.5V, TSSOP-8; ki_fp_filters: TSSOP*4.4x3mm*P0.65mm*; Footprint: Package_SO:TSSOP-8_4.4x3mm_P0.65mm; Supplier: http://www.st.com/content/ccc/resource/technical/document/datasheet/b0/d8/50/40/5a/85/49/6f/DM00071904.pdf/files/DM00071904.pdf/jcr:content/translations/en.DM00071904.pdf
footprint TSSOP-8_4.4x3mm_P0.65mm
pins: 1 E0 (in), 2 E1 (in), 3 E2 (in), 4 VSS (power), 5 SDA (io), 6 SCL (in), 7 ~{{WC}} (in), 8 VCC (power)

## M24C01-FMN
designator *  value M24C01-FMN
ki_keywords: Nonvolatile Non-Volatile Memory ROM ST; ki_description: 1Kb (128x8) I2C Serial EEPROM, 1.6-5.5V, SOIC-8; ki_fp_filters: SOIC*3.9x4.9mm*P1.27mm*; Footprint: Package_SO:SOIC-8_3.9x4.9mm_P1.27mm; Supplier: http://www.st.com/content/ccc/resource/technical/document/datasheet/b0/d8/50/40/5a/85/49/6f/DM00071904.pdf/files/DM00071904.pdf/jcr:content/translations/en.DM00071904.pdf
footprint SOIC-8_3.9x4.9mm_P1.27mm
pins: 1 E0 (in), 2 E1 (in), 3 E2 (in), 4 VSS (power), 5 SDA (io), 6 SCL (in), 7 ~{{WC}} (in), 8 VCC (power)

## M24C01-RDW
designator *  value M24C01-RDW
ki_keywords: Nonvolatile Non-Volatile Memory ROM ST; ki_description: 1Kb (128x8) I2C Serial EEPROM, 1.8-5.5V, TSSOP-8; ki_fp_filters: TSSOP*4.4x3mm*P0.65mm*; Footprint: Package_SO:TSSOP-8_4.4x3mm_P0.65mm; Supplier: http://www.st.com/content/ccc/resource/technical/document/datasheet/b0/d8/50/40/5a/85/49/6f/DM00071904.pdf/files/DM00071904.pdf/jcr:content/translations/en.DM00071904.pdf
footprint TSSOP-8_4.4x3mm_P0.65mm
pins: 1 E0 (in), 2 E1 (in), 3 E2 (in), 4 VSS (power), 5 SDA (io), 6 SCL (in), 7 ~{{WC}} (in), 8 VCC (power)

## M24C01-RMN
designator *  value M24C01-RMN
ki_keywords: Nonvolatile Non-Volatile Memory ROM ST; ki_description: 1Kb (128x8) I2C Serial EEPROM, 1.8-5.5V, SOIC-8; ki_fp_filters: SOIC*3.9x4.9mm*P1.27mm*; Footprint: Package_SO:SOIC-8_3.9x4.9mm_P1.27mm; Supplier: http://www.st.com/content/ccc/resource/technical/document/datasheet/b0/d8/50/40/5a/85/49/6f/DM00071904.pdf/files/DM00071904.pdf/jcr:content/translations/en.DM00071904.pdf
footprint SOIC-8_3.9x4.9mm_P1.27mm
pins: 1 E0 (in), 2 E1 (in), 3 E2 (in), 4 VSS (power), 5 SDA (io), 6 SCL (in), 7 ~{{WC}} (in), 8 VCC (power)

## M24C01-WDW
designator *  value M24C01-WDW
ki_keywords: Nonvolatile Non-Volatile Memory ROM ST; ki_description: 1Kb (128x8) I2C Serial EEPROM, 2.5-5.5V, TSSOP-8; ki_fp_filters: TSSOP*4.4x3mm*P0.65mm*; Footprint: Package_SO:TSSOP-8_4.4x3mm_P0.65mm; Supplier: http://www.st.com/content/ccc/resource/technical/document/datasheet/b0/d8/50/40/5a/85/49/6f/DM00071904.pdf/files/DM00071904.pdf/jcr:content/translations/en.DM00071904.pdf
footprint TSSOP-8_4.4x3mm_P0.65mm
pins: 1 E0 (in), 2 E1 (in), 3 E2 (in), 4 VSS (power), 5 SDA (io), 6 SCL (in), 7 ~{{WC}} (in), 8 VCC (power)

## M24C01-WMN
designator *  value M24C01-WMN
ki_keywords: Nonvolatile Non-Volatile Memory ROM ST; ki_description: 1Kb (128x8) I2C Serial EEPROM, 2.5-5.5V, SOIC-8; ki_fp_filters: SOIC*3.9x4.9mm*P1.27mm*; Footprint: Package_SO:SOIC-8_3.9x4.9mm_P1.27mm; Supplier: http://www.st.com/content/ccc/resource/technical/document/datasheet/b0/d8/50/40/5a/85/49/6f/DM00071904.pdf/files/DM00071904.pdf/jcr:content/translations/en.DM00071904.pdf
footprint SOIC-8_3.9x4.9mm_P1.27mm
pins: 1 E0 (in), 2 E1 (in), 3 E2 (in), 4 VSS (power), 5 SDA (io), 6 SCL (in), 7 ~{{WC}} (in), 8 VCC (power)

## M24C02-FDW
designator *  value M24C02-FDW
ki_keywords: Nonvolatile Non-Volatile Memory ROM ST; ki_description: 2Kb (256x8) I2C Serial EEPROM, 1.6-5.5V, TSSOP-8; ki_fp_filters: TSSOP*4.4x3mm*P0.65mm*; Footprint: Package_SO:TSSOP-8_4.4x3mm_P0.65mm; Supplier: http://www.st.com/content/ccc/resource/technical/document/datasheet/b0/d8/50/40/5a/85/49/6f/DM00071904.pdf/files/DM00071904.pdf/jcr:content/translations/en.DM00071904.pdf
footprint TSSOP-8_4.4x3mm_P0.65mm
pins: 1 E0 (in), 2 E1 (in), 3 E2 (in), 4 VSS (power), 5 SDA (io), 6 SCL (in), 7 ~{{WC}} (in), 8 VCC (power)

## M24C02-FMN
designator *  value M24C02-FMN
ki_keywords: Nonvolatile Non-Volatile Memory ROM ST; ki_description: 2Kb (256x8) I2C Serial EEPROM, 1.6-5.5V, SOIC-8; ki_fp_filters: SOIC*3.9x4.9mm*P1.27mm*; Footprint: Package_SO:SOIC-8_3.9x4.9mm_P1.27mm; Supplier: http://www.st.com/content/ccc/resource/technical/document/datasheet/b0/d8/50/40/5a/85/49/6f/DM00071904.pdf/files/DM00071904.pdf/jcr:content/translations/en.DM00071904.pdf
footprint SOIC-8_3.9x4.9mm_P1.27mm
pins: 1 E0 (in), 2 E1 (in), 3 E2 (in), 4 VSS (power), 5 SDA (io), 6 SCL (in), 7 ~{{WC}} (in), 8 VCC (power)

## M24C02-RDW
designator *  value M24C02-RDW
ki_keywords: Nonvolatile Non-Volatile Memory ROM ST; ki_description: 2Kb (256x8) I2C Serial EEPROM, 1.8-5.5V, TSSOP-8; ki_fp_filters: TSSOP*4.4x3mm*P0.65mm*; Footprint: Package_SO:TSSOP-8_4.4x3mm_P0.65mm; Supplier: http://www.st.com/content/ccc/resource/technical/document/datasheet/b0/d8/50/40/5a/85/49/6f/DM00071904.pdf/files/DM00071904.pdf/jcr:content/translations/en.DM00071904.pdf
footprint TSSOP-8_4.4x3mm_P0.65mm
pins: 1 E0 (in), 2 E1 (in), 3 E2 (in), 4 VSS (power), 5 SDA (io), 6 SCL (in), 7 ~{{WC}} (in), 8 VCC (power)

## M24C02-RMN
designator *  value M24C02-RMN
ki_keywords: Nonvolatile Non-Volatile Memory ROM ST; ki_description: 2Kb (256x8) I2C Serial EEPROM, 1.8-5.5V, SOIC-8; ki_fp_filters: SOIC*3.9x4.9mm*P1.27mm*; Footprint: Package_SO:SOIC-8_3.9x4.9mm_P1.27mm; Supplier: http://www.st.com/content/ccc/resource/technical/document/datasheet/b0/d8/50/40/5a/85/49/6f/DM00071904.pdf/files/DM00071904.pdf/jcr:content/translations/en.DM00071904.pdf
footprint SOIC-8_3.9x4.9mm_P1.27mm
pins: 1 E0 (in), 2 E1 (in), 3 E2 (in), 4 VSS (power), 5 SDA (io), 6 SCL (in), 7 ~{{WC}} (in), 8 VCC (power)

## M24C02-WDW
designator *  value M24C02-WDW
ki_keywords: Nonvolatile Non-Volatile Memory ROM ST; ki_description: 2Kb (256x8) I2C Serial EEPROM, 2.5-5.5V, TSSOP-8; ki_fp_filters: TSSOP*4.4x3mm*P0.65mm*; Footprint: Package_SO:TSSOP-8_4.4x3mm_P0.65mm; Supplier: http://www.st.com/content/ccc/resource/technical/document/datasheet/b0/d8/50/40/5a/85/49/6f/DM00071904.pdf/files/DM00071904.pdf/jcr:content/translations/en.DM00071904.pdf
footprint TSSOP-8_4.4x3mm_P0.65mm
pins: 1 E0 (in), 2 E1 (in), 3 E2 (in), 4 VSS (power), 5 SDA (io), 6 SCL (in), 7 ~{{WC}} (in), 8 VCC (power)

## M24C02-WMN
designator *  value M24C02-WMN
ki_keywords: Nonvolatile Non-Volatile Memory ROM ST; ki_description: 2Kb (256x8) I2C Serial EEPROM, 2.5-5.5V, SOIC-8; ki_fp_filters: SOIC*3.9x4.9mm*P1.27mm*; Footprint: Package_SO:SOIC-8_3.9x4.9mm_P1.27mm; Supplier: http://www.st.com/content/ccc/resource/technical/document/datasheet/b0/d8/50/40/5a/85/49/6f/DM00071904.pdf/files/DM00071904.pdf/jcr:content/translations/en.DM00071904.pdf
footprint SOIC-8_3.9x4.9mm_P1.27mm
pins: 1 E0 (in), 2 E1 (in), 3 E2 (in), 4 VSS (power), 5 SDA (io), 6 SCL (in), 7 ~{{WC}} (in), 8 VCC (power)

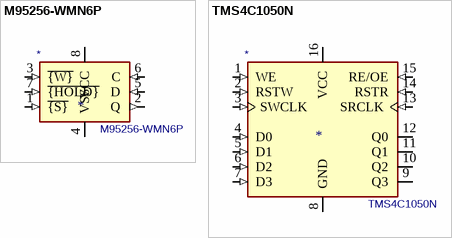
[diagram p2: symbols M95256-WMN6P to TMS4C1050N]

## M95256-WMN6P
designator *  value M95256-WMN6P
ki_keywords: SPI EEPROM; ki_description: SPI EEPROM, 256Kb (32K x 8), No Identification Page, 2.5 to 5.5V, SO8; ki_fp_filters: SOIC*3.9x4.9mm*P1.27mm*; Footprint: Package_SO:SOIC-8_3.9x4.9mm_P1.27mm; Supplier: http://www.st.com/content/ccc/resource/technical/document/datasheet/9d/75/f0/3e/76/00/4c/0b/CD00103810.pdf/files/CD00103810.pdf/jcr:content/translations/en.CD00103810.pdf
footprint SOIC-8_3.9x4.9mm_P1.27mm
pins: 1 ~{{S}} (in), 2 Q (out), 3 ~{{W}} (in), 4 VSS (power), 5 D (in), 6 C (in), 7 ~{{HOLD}} (in), 8 VCC (power)

## TMS4C1050N
designator *  value TMS4C1050N
ki_keywords: Field Memory; ki_description: Field Memory, 262264 x 4 bit, [Obsolete 1992-01]; ki_fp_filters: DIP*; Footprint: Package_DIP:DIP-16_W7.62mm; Supplier: http://www.datasheets360.com/pdf/3640170882560205603
footprint DIP-16_W7.62mm
pins: 1 WE (in), 2 RSTW (in), 3 SWCLK (in), 4 D0 (in), 5 D1 (in), 6 D2 (in), 7 D3 (in), 8 GND (power), 9 Q3 (hiz), 10 Q2 (hiz), 11 Q1 (hiz), 12 Q0 (hiz), 13 SRCLK (in), 14 RSTR (in), 15 RE/OE (in), 16 VCC (power)